# EAGLE library part HEADER20 (library usevolt)
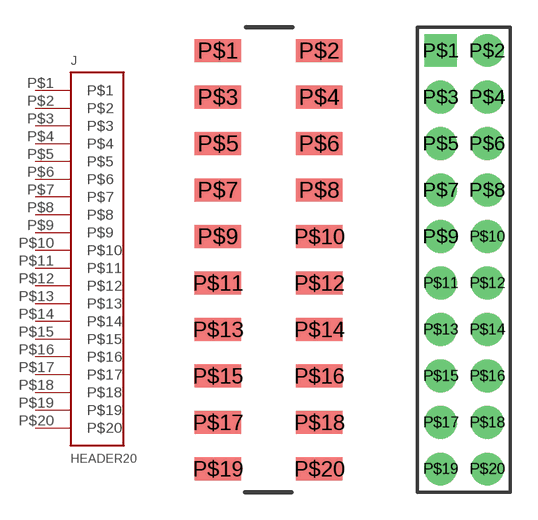
[diagram p13: symbol with the pads of HEADER_10_2_SMD; footprints HEADER_10_2_SMD, HEADER_10_2]

Designator prefix J

## HEADER20SMD  [HEADER_10_2_SMD]
P$1  P$1
P$2  P$2
P$3  P$3
P$4  P$4
P$5  P$5
P$6  P$6
P$7  P$7
P$8  P$8
P$9  P$9
P$10  P$10
P$11  P$11
P$12  P$12
P$13  P$13
P$14  P$14
P$15  P$15
P$16  P$16
P$17  P$17
P$18  P$18
P$19  P$19
P$20  P$20

## HEADER20THROUGHT_HOLE  [HEADER_10_2]
Pads as for HEADER_10_2_SMD

## HEADER20TROUGHT_HOLE_0.5_INCH  [HEADER_10_2_0.5INCH]
Pads as for HEADER_10_2_SMD

## Footprint HEADER_10_2_SMD (pad centres in mm)
smd 2.54 x 1.27: P$1 -2.997,11.43; P$2 2.54,11.43; P$3 -2.997,8.89; P$4 2.54,8.89; P$5 -2.997,6.35; P$6 2.54,6.35; P$7 -2.997,3.81; P$8 2.54,3.81; P$9 -2.997,1.27; P$10 2.54,1.27; P$11 -2.997,-1.27; P$12 2.54,-1.27; P$13 -2.997,-3.81; P$14 2.54,-3.81; P$15 -2.997,-6.35; P$16 2.54,-6.35; P$17 -2.997,-8.89; P$18 2.54,-8.89; P$19 -2.997,-11.43; P$20 2.54,-11.43

## Footprint HEADER_10_2 (pad centres in mm)
drill 1.016 pad 1.778 square: P$1 0,0
drill 1.016 pad 1.778: P$2 2.54,0; P$3 0,-2.54; P$4 2.54,-2.54; P$5 0,-5.08; P$6 2.54,-5.08; P$7 0,-7.62; P$8 2.54,-7.62; P$9 0,-10.16; P$10 2.54,-10.16; P$11 0,-12.7; P$12 2.54,-12.7; P$13 0,-15.24; P$14 2.54,-15.24; P$15 0,-17.78; P$16 2.54,-17.78; P$17 0,-20.32; P$18 2.54,-20.32; P$19 0,-22.86; P$20 2.54,-22.86

## Footprint HEADER_10_2_0.5INCH (pad centres in mm)
smd 1.905 x 0.635: P$1 -1.27,5.08; P$2 -1.27,3.81; P$3 -1.27,2.54; P$4 -1.27,1.27; P$5 -1.27,0; P$6 -1.27,-1.27; P$7 -1.27,-2.54; P$8 -1.27,-3.81; P$9 -1.27,-5.08; P$10 -1.27,-6.35; P$11 3.175,5.08; P$12 3.175,3.81; P$13 3.175,2.54; P$14 3.175,1.27; P$15 3.175,0; P$16 3.175,-1.27; P$17 3.175,-2.54; P$18 3.175,-3.81; P$19 3.175,-5.08; P$20 3.175,-6.35